# EAGLE library part C8051F962 (library Zoli2_2015-02-22)
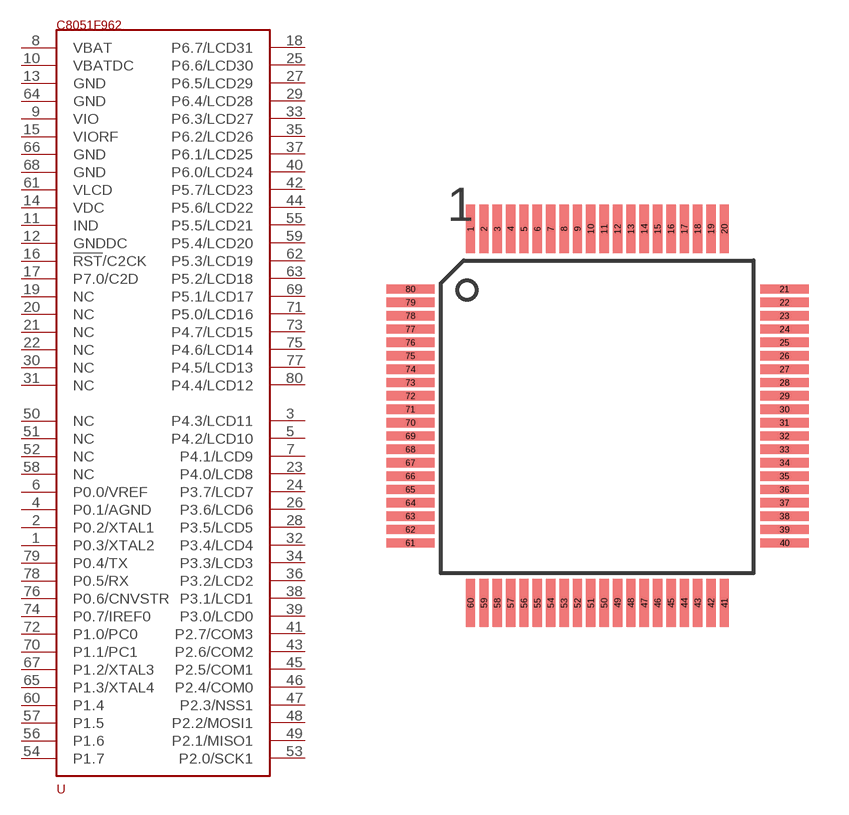
[diagram p72: symbol with the pads of TQFP80-14X14; footprint TQFP80-14X14]

Designator prefix -

## C8051F962  [TQFP80-14X14]
1  P0.3/XTAL2
2  P0.2/XTAL1
3  P4.3/LCD11
4  P0.1/AGND
5  P4.2/LCD10
6  P0.0/VREF
7  P4.1/LCD9
8  VBAT  pwr
9  VIO  pwr
10  VBATDC  pwr
11  IND  pwr
12  GNDDC  pwr
13  GND  pwr
14  VDC  pwr
15  VIORF  pwr
16  !RST!/C2CK
17  P7.0/C2D
18  P6.7/LCD31
19  NC  nc
20  NC  nc
21  NC  nc
22  NC  nc
23  P4.0/LCD8
24  P3.7/LCD7
25  P6.6/LCD30
26  P3.6/LCD6
27  P6.5/LCD29
28  P3.5/LCD5
29  P6.4/LCD28
30  NC  nc
31  NC  nc
32  P3.4/LCD4
33  P6.3/LCD27
34  P3.3/LCD3
35  P6.2/LCD26
36  P3.2/LCD2
37  P6.1/LCD25
38  P3.1/LCD1
39  P3.0/LCD0
40  P6.0/LCD24
41  P2.7/COM3
42  P5.7/LCD23
43  P2.6/COM2
44  P5.6/LCD22
45  P2.5/COM1
46  P2.4/COM0
47  P2.3/NSS1
48  P2.2/MOSI1
49  P2.1/MISO1
50  NC  nc
51  NC  nc
52  NC  nc
53  P2.0/SCK1
54  P1.7
55  P5.5/LCD21
56  P1.6
57  P1.5
58  NC  nc
59  P5.4/LCD20
60  P1.4
61  VLCD  pwr
62  P5.3/LCD19
63  P5.2/LCD18
64  GND  pwr
65  P1.3/XTAL4
66  GND  pwr
67  P1.2/XTAL3
68  GND  pwr
69  P5.1/LCD17
70  P1.1/PC1
71  P5.0/LCD16
72  P1.0/PC0
73  P4.7/LCD15
74  P0.7/IREF0
75  P4.6/LCD14
76  P0.6/CNVSTR
77  P4.5/LCD13
78  P0.5/RX
79  P0.4/TX
80  P4.4/LCD12

## Footprint TQFP80-14X14 (pad centres in mm)
TQFP80 14mm x 14mm 0.5mm pin pitch
smd 0.35 x 1.8: 1 -4.75,7; 2 -4.25,7; 3 -3.75,7; 4 -3.25,7; 5 -2.75,7; 6 -2.25,7; 7 -1.75,7; 8 -1.25,7; 9 -0.75,7; 10 -0.25,7; 11 0.25,7; 12 0.75,7; 13 1.25,7; 14 1.75,7; 15 2.25,7; 16 2.75,7; 17 3.25,7; 18 3.75,7; 19 4.25,7; 20 4.75,7; 41 4.75,-7; 42 4.25,-7; 43 3.75,-7; 44 3.25,-7; 45 2.75,-7; 46 2.25,-7; 47 1.75,-7; 48 1.25,-7; 49 0.75,-7; 50 0.25,-7; 51 -0.25,-7; 52 -0.75,-7; 53 -1.25,-7; 54 -1.75,-7; 55 -2.25,-7; 56 -2.75,-7; 57 -3.25,-7; 58 -3.75,-7; 59 -4.25,-7; 60 -4.75,-7
smd 1.8 x 0.35: 21 7,4.75; 22 7,4.25; 23 7,3.75; 24 7,3.25; 25 7,2.75; 26 7,2.25; 27 7,1.75; 28 7,1.25; 29 7,0.75; 30 7,0.25; 31 7,-0.25; 32 7,-0.75; 33 7,-1.25; 34 7,-1.75; 35 7,-2.25; 36 7,-2.75; 37 7,-3.25; 38 7,-3.75; 39 7,-4.25; 40 7,-4.75; 61 -7,-4.75; 62 -7,-4.25; 63 -7,-3.75; 64 -7,-3.25; 65 -7,-2.75; 66 -7,-2.25; 67 -7,-1.75; 68 -7,-1.25; 69 -7,-0.75; 70 -7,-0.25; 71 -7,0.25; 72 -7,0.75; 73 -7,1.25; 74 -7,1.75; 75 -7,2.25; 76 -7,2.75; 77 -7,3.25; 78 -7,3.75; 79 -7,4.25; 80 -7,4.75